# Altium footprint library footprints.PcbLib: 160 footprints (part 5 of 10)
Each footprint in its own frame and in the unit in brackets; x right, y up, seen from the top. Pads: shape width x height; smd on the part's side, far side on the other; paste and mask are expansions set on the pad; w line width, h text height; cw(c..) or ccw(c..) is an arc to the next point about the centre after c.
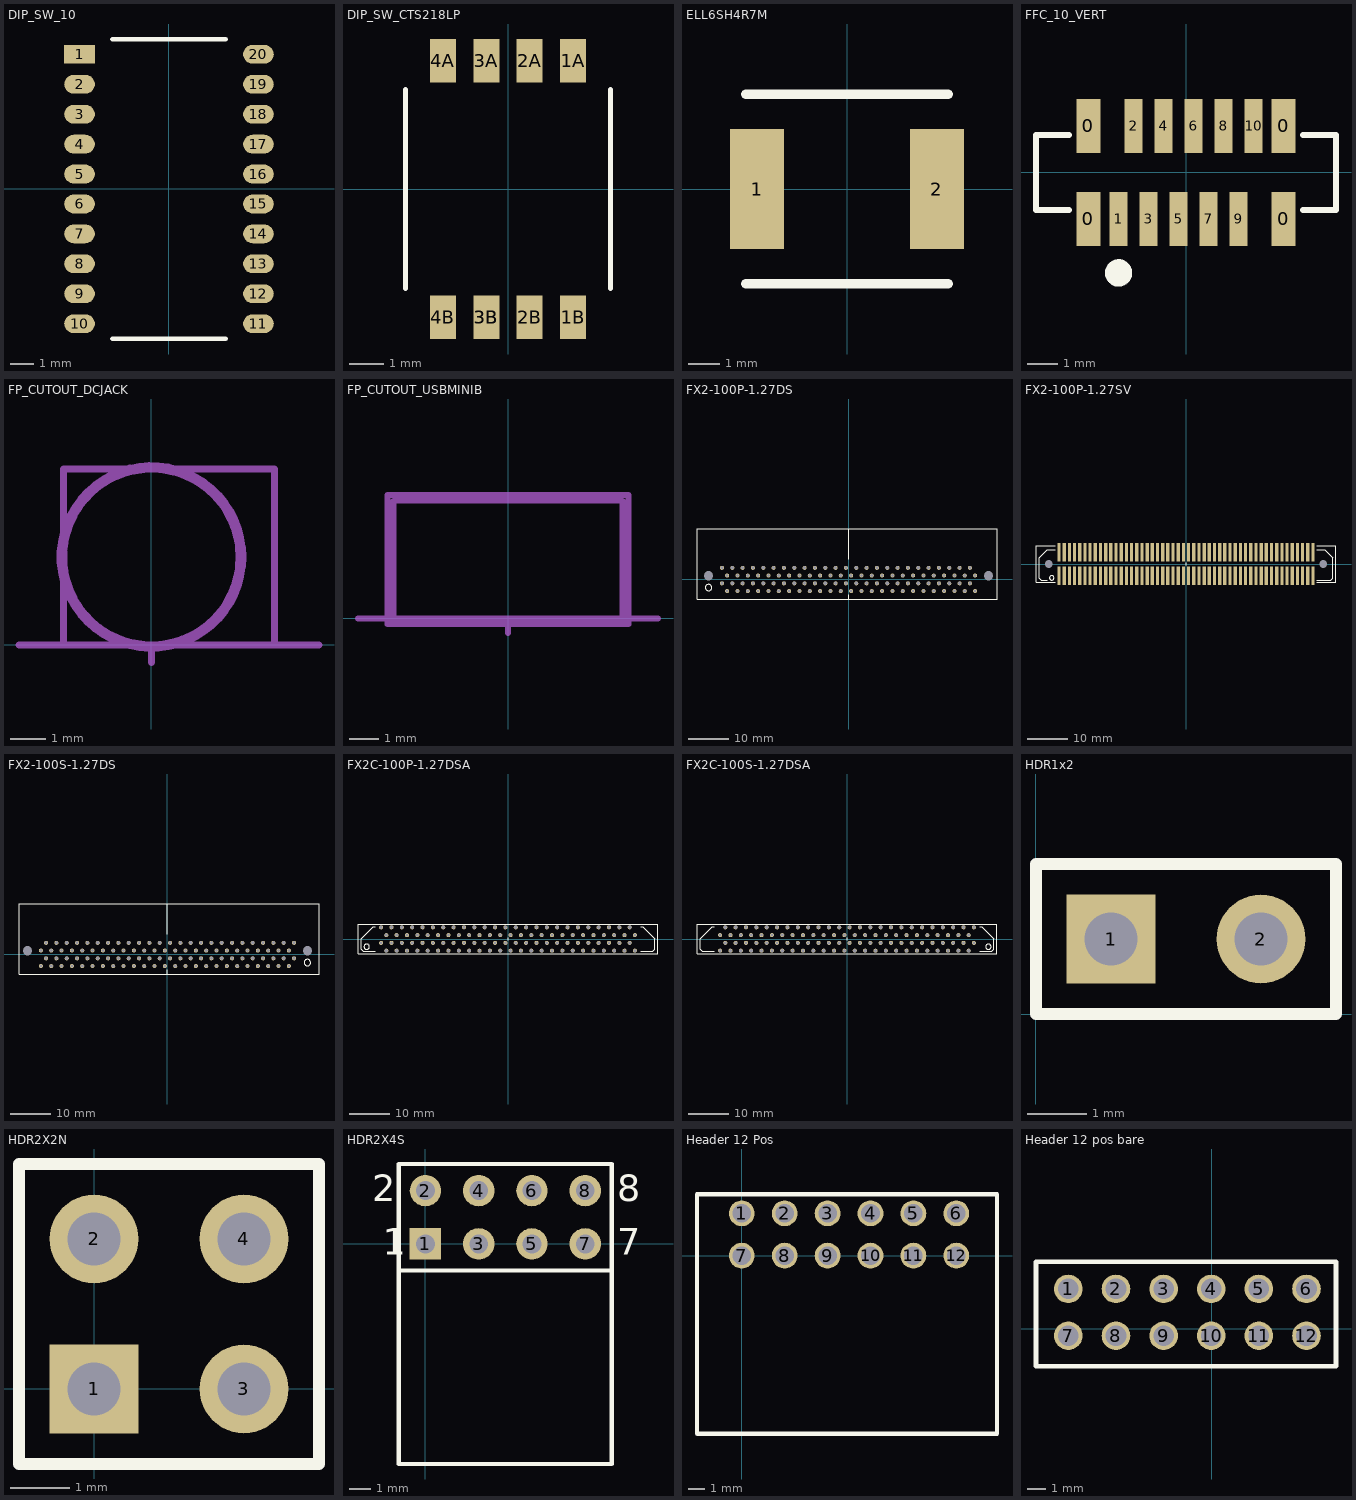
[diagram p4: the footprints below, top view; thin cyan lines are the x and y axes]

## DIP_SW_10 [mm]
pads (20):
  rect 1.3x0.8 smd: 1(-3.795,5.7)
  oval 1.3x0.8 smd: 2(-3.795,4.43) 3(-3.795,3.16) 4(-3.795,1.89) 5(-3.795,0.62) 6(-3.795,-0.65) 7(-3.795,-1.92) 8(-3.795,-3.19) 9(-3.795,-4.46) 10(-3.795,-5.73) 11(3.795,-5.73) 12(3.795,-4.46) 13(3.795,-3.19) 14(3.795,-1.92) 15(3.795,-0.65) 16(3.795,0.62) 17(3.795,1.89) 18(3.795,3.16) 19(3.795,4.43) 20(3.795,5.7)
Top Overlay:
  lines w0.2: -2.395,-6.365 2.405,-6.365 ; -2.395,6.335 2.405,6.335

## DIP_SW_CTS218LP [mm] "CTS Series 218LP - Gull wing terminal"
pads (9):
  rect 0.76x1.27 smd: 1A(1.905,3.75) 1B(1.905,-3.75) 2A(0.635,3.75) 2B(0.635,-3.75) 3A(-0.635,3.75) 3B(-0.635,-3.75) 3B(-0.635,-3.75) 4A(-1.905,3.75) 4B(-1.905,-3.75)
Top Overlay:
  lines w0.152: -3,-2.9 -3,2.9 ; 3,-2.9 3,2.9

## ELL6SH4R7M [mm] "Inductor"
height 3
pads (2):
  rect 1.7x3.8 smd: 1(-2.85,0) 2(2.85,0)
Top Overlay:
  lines w0.3: -3.2,-3 3.2,-3 ; -3.2,3 3.2,3

## FFC_10_VERT [mm] "Vertical Mount, 10 pin FFC connector"
pads (14):
  rect 0.8x1.8 smd: 0(-3.25,-1.55) 0(-3.25,1.55) 0(3.25,-1.55) 0(3.25,1.55)
  rect 0.6x1.8 smd: 1(-2.25,-1.55) 2(-1.75,1.55) 3(-1.25,-1.55) 4(-0.75,1.55) 5(-0.25,-1.55) 6(0.25,1.55) 7(0.75,-1.55) 8(1.25,1.55) 9(1.75,-1.55) 10(2.25,1.55)
Top Overlay:
  circle w0.5: c-2.25,-3.35 r0.206
  lines w0.2: -3.9,-1.25 -5,-1.25 -5,1.25 -3.9,1.25 ; 3.9,-1.25 5,-1.25 5,1.25 3.9,1.25

## FP_CUTOUT_DCJACK [mm]
Mechanical 1:
  circle w0.2: c0,2.5 r2.6
Mechanical 15:
  circle w0.2: c0,2.5 r2.5
  lines w0.2: -3.77,0 -2.5,0 ; 0,-0.5 0,0 ; 4.77,0 3.5,0 ; -2.5,0 3.5,0 ; -2.5,0 -2.5,5 3.5,5 3.5,0

## FP_CUTOUT_USBMINIB [mm]
Mechanical 1:
  lines w0.2: -4.05,-0.2 -4.05,4.15 4.05,4.15 4.05,-0.2 -4.05,-0.2
Mechanical 15:
  lines w0.2: -5.04,0 -3.85,0 ; 0,-0.5 0,0 ; 5.04,0 3.85,0 ; -3.85,0 -3.85,3.95 3.85,3.95 3.85,0 ; -3.85,0 3.85,0

## FX2-100P-1.27DS [mm]
pads (102):
  round 0 hole 2.3: 0(-34.425,0.953) 0(34.425,0.953)
  round 1 hole 0.8: A1(-31.115,-0.953) A2(-29.845,-2.857) A3(-28.575,-0.953) A4(-27.305,-2.857) A5(-26.035,-0.953) A6(-24.765,-2.857) A7(-23.495,-0.953) A8(-22.225,-2.857) A9(-20.955,-0.953) A10(-19.685,-2.857) A11(-18.415,-0.953) A12(-17.145,-2.857) A13(-15.875,-0.953) A14(-14.605,-2.857) A15(-13.335,-0.953) A16(-12.065,-2.857) A17(-10.795,-0.953) A18(-9.525,-2.857) A19(-8.255,-0.953) A20(-6.985,-2.857) A21(-5.715,-0.953) A22(-4.445,-2.857) A23(-3.175,-0.953) A24(-1.905,-2.857) A25(-0.635,-0.953) A26(0.635,-2.857) A27(1.905,-0.953) A28(3.175,-2.857) A29(4.445,-0.953) A30(5.715,-2.857) A31(6.985,-0.953) A32(8.255,-2.857) A33(9.525,-0.953) A34(10.795,-2.857) A35(12.065,-0.953) A36(13.335,-2.857) A37(14.605,-0.953) A38(15.875,-2.857) A39(17.145,-0.953) A40(18.415,-2.857) A41(19.685,-0.953) A42(20.955,-2.857) A43(22.225,-0.953) A44(23.495,-2.857) A45(24.765,-0.953) A46(26.035,-2.857) A47(27.305,-0.953) A48(28.575,-2.857) A49(29.845,-0.953) A50(31.115,-2.857) B1(-31.115,2.857) B2(-29.845,0.953) B3(-28.575,2.857) B4(-27.305,0.953) B5(-26.035,2.857) B6(-24.765,0.953) B7(-23.495,2.857) B8(-22.225,0.953) B9(-20.955,2.857) B10(-19.685,0.953) B11(-18.415,2.857) B12(-17.145,0.953) B13(-15.875,2.857) B14(-14.605,0.953) B15(-13.335,2.857) B16(-12.065,0.953) B17(-10.795,2.857) B18(-9.525,0.953) B19(-8.255,2.857) B20(-6.985,0.953) B21(-5.715,2.857) B22(-4.445,0.953) B23(-3.175,2.857) B24(-1.905,0.953) B25(-0.635,2.857) B26(0.635,0.953) B27(1.905,2.857) B28(3.175,0.953) B29(4.445,2.857) B30(5.715,0.953) B31(6.985,2.857) B32(8.255,0.953) B33(9.525,2.857) B34(10.795,0.953) B35(12.065,2.857) B36(13.335,0.953) B37(14.605,2.857) B38(15.875,0.953) B39(17.145,2.857) B40(18.415,0.953) B41(19.685,2.857) B42(20.955,0.953) B43(22.225,2.857) B44(23.495,0.953) B45(24.765,2.857) B46(26.035,0.953) B47(27.305,2.857) B48(28.575,0.953) B49(29.845,2.857) B50(31.115,0.953)
Top Overlay:
  circle w0.254: c-34.4,-2 r0.791
  lines w0.152: 0,-4.905 0,-3.75 ; 0,5 0,12.5 ; -37.25,-4.905 -0.25,-4.905 36.5,-4.905 36.5,12.5 -0.25,12.5 -37.25,12.5 -37.25,-4.905
3D body: height 7.4, standoff -3.4, extent -36.75,-3.75 36.8,11.25

## FX2-100P-1.27SV [mm]
pads (102):
  round 0 hole 1.9: 0(-33.655,0) 0(33.655,0)
  rect 0.8x4.5 smd: A1(-31.115,-2.84) A2(-29.845,-2.84) A3(-28.575,-2.84) A4(-27.305,-2.84) A5(-26.035,-2.84) A6(-24.765,-2.84) A7(-23.495,-2.84) A8(-22.225,-2.84) A9(-20.955,-2.84) A10(-19.685,-2.84) A11(-18.415,-2.84) A12(-17.145,-2.84) A13(-15.875,-2.84) A14(-14.605,-2.84) A15(-13.335,-2.84) A16(-12.065,-2.84) A17(-10.795,-2.84) A18(-9.525,-2.84) A19(-8.255,-2.84) A20(-6.985,-2.84) A21(-5.715,-2.84) A22(-4.445,-2.84) A23(-3.175,-2.84) A24(-1.905,-2.84) A25(-0.635,-2.84) A26(0.635,-2.84) A27(1.905,-2.84) A28(3.175,-2.84) A29(4.445,-2.84) A30(5.715,-2.84) A31(6.985,-2.84) A32(8.255,-2.84) A33(9.525,-2.84) A34(10.795,-2.84) A35(12.065,-2.84) A36(13.335,-2.84) A37(14.605,-2.84) A38(15.875,-2.84) A39(17.145,-2.84) A40(18.415,-2.84) A41(19.685,-2.84) A42(20.955,-2.84) A43(22.225,-2.84) A44(23.495,-2.84) A45(24.765,-2.84) A46(26.035,-2.84) A47(27.305,-2.84) A48(28.575,-2.84) A49(29.845,-2.84) A50(31.115,-2.84) B1(-31.115,2.84) B2(-29.845,2.84) B3(-28.575,2.84) B4(-27.305,2.84) B5(-26.035,2.84) B6(-24.765,2.84) B7(-23.495,2.84) B8(-22.225,2.84) B9(-20.955,2.84) B10(-19.685,2.84) B11(-18.415,2.84) B12(-17.145,2.84) B13(-15.875,2.84) B14(-14.605,2.84) B15(-13.335,2.84) B16(-12.065,2.84) B17(-10.795,2.84) B18(-9.525,2.84) B19(-8.255,2.84) B20(-6.985,2.84) B21(-5.715,2.84) B22(-4.445,2.84) B23(-3.175,2.84) B24(-1.905,2.84) B25(-0.635,2.84) B26(0.635,2.84) B27(1.905,2.84) B28(3.175,2.84) B29(4.445,2.84) B30(5.715,2.84) B31(6.985,2.84) B32(8.255,2.84) B33(9.525,2.84) B34(10.795,2.84) B35(12.065,2.84) B36(13.335,2.84) B37(14.605,2.84) B38(15.875,2.84) B39(17.145,2.84) B40(18.415,2.84) B41(19.685,2.84) B42(20.955,2.84) B43(22.225,2.84) B44(23.495,2.84) B45(24.765,2.84) B46(26.035,2.84) B47(27.305,2.84) B48(28.575,2.84) B49(29.845,2.84) B50(31.115,2.84)
Top Overlay:
  circle w0.254: c-32.9,-3.4 r0.559
  lines w0.152: -34,-4 -35.5,-4 -36,-3.5 -36,1.5 -34,3.5 -32,3.5 ; -32,-4.5 -36.755,-4.5 -36.755,4.5 -32,4.5 ; 0,-0.25 0,0.25 ; 32,-4.5 36.755,-4.5 36.755,4.5 32,4.5 ; 32,-4 35.5,-4 36,-3.5 36,1.5 34,3.5 32,3.5 ; -32,4.5 -32,4.5 ; 32,4.5 32,4.5

## FX2-100S-1.27DS [mm] "FX2-100S-1.27DS Right angle receptacle"
pads (102):
  round 0 hole 2.3: 0(-34.425,0.953) 0(34.425,0.953)
  round 1 hole 0.8: A1(31.115,-0.953) A2(29.845,-2.857) A3(28.575,-0.953) A4(27.305,-2.857) A5(26.035,-0.953) A6(24.765,-2.857) A7(23.495,-0.953) A8(22.225,-2.857) A9(20.955,-0.953) A10(19.685,-2.857) A11(18.415,-0.953) A12(17.145,-2.857) A13(15.875,-0.953) A14(14.605,-2.857) A15(13.335,-0.953) A16(12.065,-2.857) A17(10.795,-0.953) A18(9.525,-2.857) A19(8.255,-0.953) A20(6.985,-2.857) A21(5.715,-0.953) A22(4.445,-2.857) A23(3.175,-0.953) A24(1.905,-2.857) A25(0.635,-0.953) A26(-0.635,-2.857) A27(-1.905,-0.953) A28(-3.175,-2.857) A29(-4.445,-0.953) A30(-5.715,-2.857) A31(-6.985,-0.953) A32(-8.255,-2.857) A33(-9.525,-0.953) A34(-10.795,-2.857) A35(-12.065,-0.953) A36(-13.335,-2.857) A37(-14.605,-0.953) A38(-15.875,-2.857) A39(-17.145,-0.953) A40(-18.415,-2.857) A41(-19.685,-0.953) A42(-20.955,-2.857) A43(-22.225,-0.953) A44(-23.495,-2.857) A45(-24.765,-0.953) A46(-26.035,-2.857) A47(-27.305,-0.953) A48(-28.575,-2.857) A49(-29.845,-0.953) A50(-31.115,-2.857) B1(31.115,2.857) B2(29.845,0.953) B3(28.575,2.857) B4(27.305,0.953) B5(26.035,2.857) B6(24.765,0.953) B7(23.495,2.857) B8(22.225,0.953) B9(20.955,2.857) B10(19.685,0.953) B11(18.415,2.857) B12(17.145,0.953) B13(15.875,2.857) B14(14.605,0.953) B15(13.335,2.857) B16(12.065,0.953) B17(10.795,2.857) B18(9.525,0.953) B19(8.255,2.857) B20(6.985,0.953) B21(5.715,2.857) B22(4.445,0.953) B23(3.175,2.857) B24(1.905,0.953) B25(0.635,2.857) B26(-0.635,0.953) B27(-1.905,2.857) B28(-3.175,0.953) B29(-4.445,2.857) B30(-5.715,0.953) B31(-6.985,2.857) B32(-8.255,0.953) B33(-9.525,2.857) B34(-10.795,0.953) B35(-12.065,2.857) B36(-13.335,0.953) B37(-14.605,2.857) B38(-15.875,0.953) B39(-17.145,2.857) B40(-18.415,0.953) B41(-19.685,2.857) B42(-20.955,0.953) B43(-22.225,2.857) B44(-23.495,0.953) B45(-24.765,2.857) B46(-26.035,0.953) B47(-27.305,2.857) B48(-28.575,0.953) B49(-29.845,2.857) B50(-31.115,0.953)
Top Overlay:
  circle w0.254: c34.4,-2 r0.791
  lines w0.152: 0,-4.905 0,-3.75 ; 0,5 0,12.5 ; -36.5,-4.905 -36.5,12.5 0.25,12.5 37.25,12.5 37.25,-4.905 0.25,-4.905 -36.5,-4.905

## FX2C-100P-1.27DSA [mm]
pads (100):
  round 1 hole 0.8: A1(-31.115,-0.953) A2(-29.845,-2.857) A3(-28.575,-0.953) A4(-27.305,-2.857) A5(-26.035,-0.953) A6(-24.765,-2.857) A7(-23.495,-0.953) A8(-22.225,-2.857) A9(-20.955,-0.953) A10(-19.685,-2.857) A11(-18.415,-0.953) A12(-17.145,-2.857) A13(-15.875,-0.953) A14(-14.605,-2.857) A15(-13.335,-0.953) A16(-12.065,-2.857) A17(-10.795,-0.953) A18(-9.525,-2.857) A19(-8.255,-0.953) A20(-6.985,-2.857) A21(-5.715,-0.953) A22(-4.445,-2.857) A23(-3.175,-0.953) A24(-1.905,-2.857) A25(-0.635,-0.953) A26(0.635,-2.857) A27(1.905,-0.953) A28(3.175,-2.857) A29(4.445,-0.953) A30(5.715,-2.857) A31(6.985,-0.953) A32(8.255,-2.857) A33(9.525,-0.953) A34(10.795,-2.857) A35(12.065,-0.953) A36(13.335,-2.857) A37(14.605,-0.953) A38(15.875,-2.857) A39(17.145,-0.953) A40(18.415,-2.857) A41(19.685,-0.953) A42(20.955,-2.857) A43(22.225,-0.953) A44(23.495,-2.857) A45(24.765,-0.953) A46(26.035,-2.857) A47(27.305,-0.953) A48(28.575,-2.857) A49(29.845,-0.953) A50(31.115,-2.857) B1(-31.115,2.857) B2(-29.845,0.953) B3(-28.575,2.857) B4(-27.305,0.953) B5(-26.035,2.857) B6(-24.765,0.953) B7(-23.495,2.857) B8(-22.225,0.953) B9(-20.955,2.857) B10(-19.685,0.953) B11(-18.415,2.857) B12(-17.145,0.953) B13(-15.875,2.857) B14(-14.605,0.953) B15(-13.335,2.857) B16(-12.065,0.953) B17(-10.795,2.857) B18(-9.525,0.953) B19(-8.255,2.857) B20(-6.985,0.953) B21(-5.715,2.857) B22(-4.445,0.953) B23(-3.175,2.857) B24(-1.905,0.953) B25(-0.635,2.857) B26(0.635,0.953) B27(1.905,2.857) B28(3.175,0.953) B29(4.445,2.857) B30(5.715,0.953) B31(6.985,2.857) B32(8.255,0.953) B33(9.525,2.857) B34(10.795,0.953) B35(12.065,2.857) B36(13.335,0.953) B37(14.605,2.857) B38(15.875,0.953) B39(17.145,2.857) B40(18.415,0.953) B41(19.685,2.857) B42(20.955,0.953) B43(22.225,2.857) B44(23.495,0.953) B45(24.765,2.857) B46(26.035,0.953) B47(27.305,2.857) B48(28.575,0.953) B49(29.845,2.857) B50(31.115,0.953)
Top Overlay:
  circle w0.254: c-34.65,-1.9 r0.673
  lines w0.152: -32.5,-3 -35.5,-3 -36,-2.5 -36,0 -33,3 -32.5,3 ; 0,-0.25 0,0.25 ; 32.5,-3 35.5,-3 36,-2.5 36,0 33,3 32.5,3 ; -36.78,-3.6 -36.78,3.6 36.78,3.6 36.78,-3.6 -36.78,-3.6

## FX2C-100S-1.27DSA [mm]
pads (100):
  round 1 hole 0.8: A1(31.115,-0.953) A2(29.845,-2.857) A3(28.575,-0.953) A4(27.305,-2.857) A5(26.035,-0.953) A6(24.765,-2.857) A7(23.495,-0.953) A8(22.225,-2.857) A9(20.955,-0.953) A10(19.685,-2.857) A11(18.415,-0.953) A12(17.145,-2.857) A13(15.875,-0.953) A14(14.605,-2.857) A15(13.335,-0.953) A16(12.065,-2.857) A17(10.795,-0.953) A18(9.525,-2.857) A19(8.255,-0.953) A20(6.985,-2.857) A21(5.715,-0.953) A22(4.445,-2.857) A23(3.175,-0.953) A24(1.905,-2.857) A25(0.635,-0.953) A26(-0.635,-2.857) A27(-1.905,-0.953) A28(-3.175,-2.857) A29(-4.445,-0.953) A30(-5.715,-2.857) A31(-6.985,-0.953) A32(-8.255,-2.857) A33(-9.525,-0.953) A34(-10.795,-2.857) A35(-12.065,-0.953) A36(-13.335,-2.857) A37(-14.605,-0.953) A38(-15.875,-2.857) A39(-17.145,-0.953) A40(-18.415,-2.857) A41(-19.685,-0.953) A42(-20.955,-2.857) A43(-22.225,-0.953) A44(-23.495,-2.857) A45(-24.765,-0.953) A46(-26.035,-2.857) A47(-27.305,-0.953) A48(-28.575,-2.857) A49(-29.845,-0.953) A50(-31.115,-2.857) B1(31.115,2.857) B2(29.845,0.953) B3(28.575,2.857) B4(27.305,0.953) B5(26.035,2.857) B6(24.765,0.953) B7(23.495,2.857) B8(22.225,0.953) B9(20.955,2.857) B10(19.685,0.953) B11(18.415,2.857) B12(17.145,0.953) B13(15.875,2.857) B14(14.605,0.953) B15(13.335,2.857) B16(12.065,0.953) B17(10.795,2.857) B18(9.525,0.953) B19(8.255,2.857) B20(6.985,0.953) B21(5.715,2.857) B22(4.445,0.953) B23(3.175,2.857) B24(1.905,0.953) B25(0.635,2.857) B26(-0.635,0.953) B27(-1.905,2.857) B28(-3.175,0.953) B29(-4.445,2.857) B30(-5.715,0.953) B31(-6.985,2.857) B32(-8.255,0.953) B33(-9.525,2.857) B34(-10.795,0.953) B35(-12.065,2.857) B36(-13.335,0.953) B37(-14.605,2.857) B38(-15.875,0.953) B39(-17.145,2.857) B40(-18.415,0.953) B41(-19.685,2.857) B42(-20.955,0.953) B43(-22.225,2.857) B44(-23.495,0.953) B45(-24.765,2.857) B46(-26.035,0.953) B47(-27.305,2.857) B48(-28.575,0.953) B49(-29.845,2.857) B50(-31.115,0.953)
Top Overlay:
  circle w0.254: c34.65,-1.9 r0.673
  lines w0.152: -32.5,-3 -35.5,-3 -36,-2.5 -36,0 -33,3 -32.5,3 ; 0,-0.25 0,0.25 ; 32.5,-3 35.5,-3 36,-2.5 36,0 33,3 32.5,3 ; -36.78,-3.6 -36.78,3.6 36.78,3.6 36.78,-3.6 -36.78,-3.6

## HDR1x2 [mm] "0.1\" pitch 2 pin header"
pads (2):
  rect 1.5x1.5 hole 0.9: 1(1.275,1.275)
  round 1.5 hole 0.9: 2(3.815,1.275)
Top Overlay:
  lines w0.2: 0.005,0.005 0.005,2.545 5.085,2.545 5.085,0.005 0.005,0.005

## HDR2X2N [mm] "Connector; Header; 2x2 Position,  no numbers"
pads (4):
  rect 1.5x1.5 hole 0.9: 1(0,0)
  round 1.5 hole 0.9: 2(0,2.54) 3(2.54,0) 4(2.54,2.54)
Top Overlay:
  lines w0.2: -1.27,-1.27 -1.27,3.81 3.81,3.81 3.81,-1.27 -1.27,-1.27

## HDR2X4S [mm] "Connector; Header; 4x2 Position, Polarised Shroud"
pads (8):
  rect 1.5x1.5 hole 0.9: 1(0,0)
  round 1.5 hole 0.9: 2(0,2.54) 3(2.54,0) 4(2.54,2.54) 5(5.08,0) 6(5.08,2.54) 7(7.62,0) 8(7.62,2.54)
Top Overlay:
  lines w0.2: -1.27,-1.27 -1.27,-10.5 8.89,-10.5 8.89,-1.27 ; -1.27,-1.27 -1.27,3.81 8.89,3.81 8.89,-1.27 ; -1.27,-1.27 8.89,-1.27
  text "8" at 9.144,2.032 h1.27
  text "7" at 9.144,-0.508 h1.27
  text "1" at -2.032,-0.508 h1.27
  text "2" at -2.54,2.032 h1.27

## Header 12 Pos [mil] "For WM8264-ND"
pads (12):
  round 60 hole 43.31: 1(0,98.43) 2(100,98.43) 3(200,98.43) 4(300,98.43) 5(400,98.43) 6(500,98.43) 7(0,0) 8(100,0) 9(200,0) 10(300,0) 11(400,0) 12(500,0)
Top Overlay:
  lines w10: -104.33,-414.41 -104.33,142.72 594.8,142.72 594.8,-414.88 538.39,-414.88 -40.35,-414.88 -103.86,-414.88 -104.33,-414.41
3D body: height 384.84, standoff -113.19, extent -100,-414.37 592.13,113.31

## Header 12 pos bare [mm]
pads (12):
  round 1.524 hole 1.1: 1(-7.65,2.125) 2(-5.11,2.125) 3(-2.57,2.125) 4(-0.03,2.125) 5(2.51,2.125) 6(5.05,2.125) 7(-7.65,-0.375) 8(-5.11,-0.375) 9(-2.57,-0.375) 10(-0.03,-0.375) 11(2.51,-0.375) 12(5.05,-0.375)
Top Overlay:
  lines w0.254: -9.375,-2 -9.375,2.325 -9.375,3.575 6.625,3.575 6.625,-2 -9.375,-2
3D body: height 9.25, standoff -2.9, extent -8.9,-1.84 6.34,3.24